# EAGLE library part ESP8266_ESP-12 (library ESP8266)
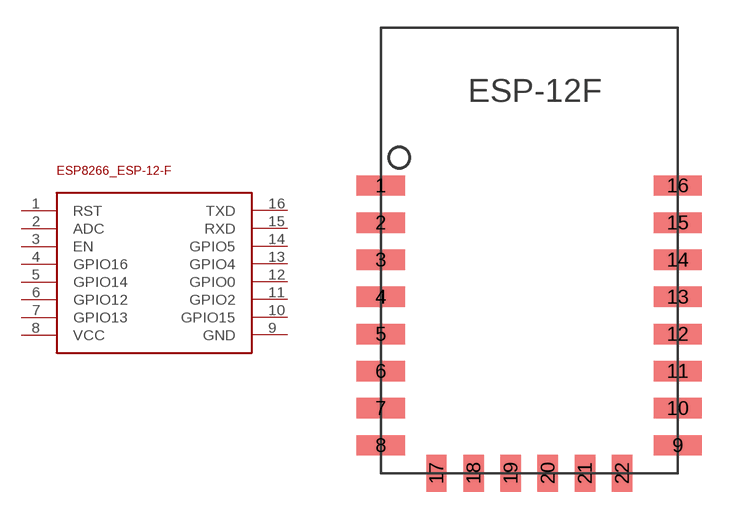
[diagram p0: symbol with the pads of ESP8266-ESP12; footprint ESP8266-ESP12]

Designator prefix -

## ESP8266_ESP-12  [ESP8266-ESP12]
1  RST
2  ADC
3  EN
4  GPIO16
5  GPIO14
6  GPIO12
7  GPIO13
8  VCC
9  GND
10  GPIO15
11  GPIO2
12  GPIO0
13  GPIO4
14  GPIO5
15  RXD
16  TXD

## Footprint ESP8266-ESP12 (pad centres in mm)
smd 2.6 x 1.1: 1 0,15.5; 2 0,13.5; 3 0,11.5; 4 0,9.5; 5 0,7.5; 6 0,5.5; 7 0,3.5; 8 0,1.5; 9 16,1.5; 10 16,3.5; 11 16,5.5; 12 16,7.5; 13 16,9.5; 14 16,11.5; 15 16,13.5; 16 16,15.5
smd 1.1 x 2: 17 3,0; 18 5,0; 19 7,0; 20 9,0; 21 11,0; 22 13,0